# Altium schematic symbol library 74LVX541.SchLib: 1 symbol
Pins are listed as number, name and electrical type; pins without a type are passive.

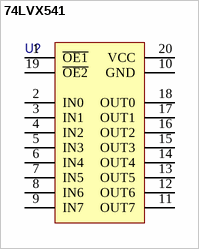
[diagram p0: symbol 74LVX541]

## 74LVX541
designator U?  (value not drawn)
pins: 1 ~{OE1}, 2 IN0, 3 IN1, 4 IN2, 5 IN3, 6 IN4, 7 IN5, 8 IN6, 9 IN7, 10 GND, 11 OUT7, 12 OUT6, 13 OUT5, 14 OUT4, 15 OUT3, 16 OUT2, 17 OUT1, 18 OUT0, 19 ~{OE2}, 20 VCC